# Altium footprint library Fedor's_pcb.PcbLib: 174 footprints (part 9 of 14)
Each footprint in its own frame and in the unit in brackets; x right, y up, seen from the top. Pads: shape width x height; smd on the part's side, far side on the other; paste and mask are expansions set on the pad; w line width, h text height; cw(c..) or ccw(c..) is an arc to the next point about the centre after c.
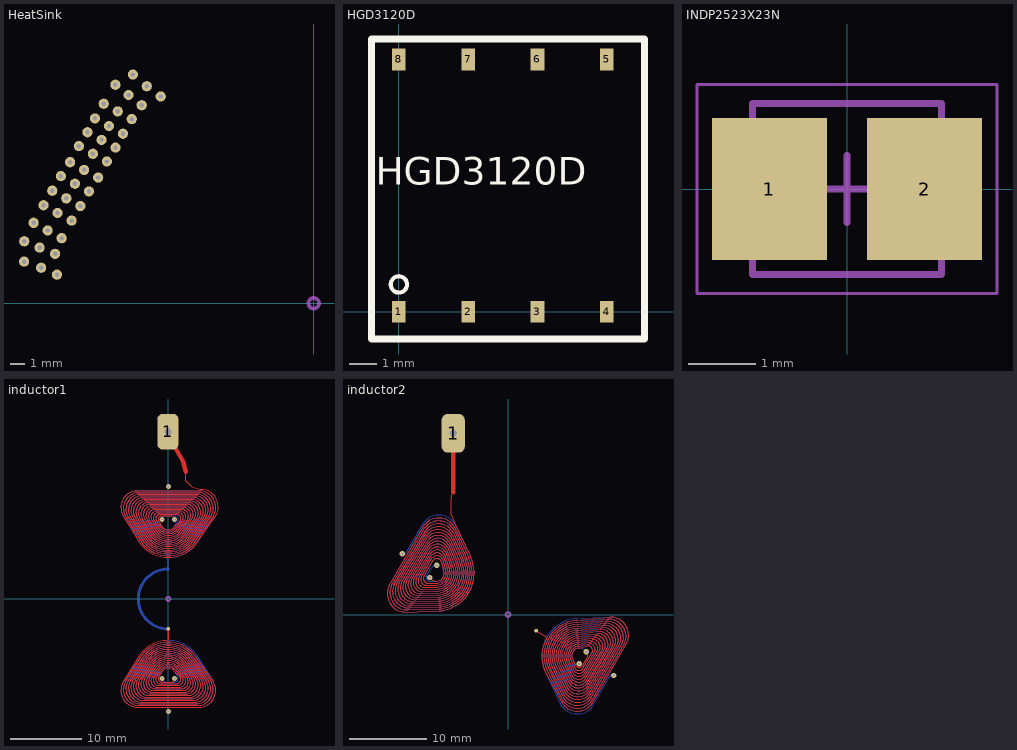
[diagram p8: the footprints below, top view; thin cyan lines are the x and y axes]

## HeatSink [mm]
pads (39):
  round 0.7 hole 0.3 mask+0.07: H_S(-19.827,2.855) H_S(-19.82,4.244) H_S(-19.178,5.509) H_S(-18.764,3.815) H_S(-18.659,2.432) H_S(-18.498,6.709) H_S(-18.218,4.984) H_S(-17.898,7.709) H_S(-17.708,3.385) H_S(-17.578,1.959) H_S(-17.538,6.184) H_S(-17.308,8.709) H_S(-17.258,4.459) H_S(-16.938,7.184) H_S(-16.678,9.659) H_S(-16.578,5.659) H_S(-16.348,8.184) H_S(-16.078,10.759) H_S(-15.978,6.659) H_S(-15.718,9.134) H_S(-15.488,11.709) H_S(-15.388,7.659) H_S(-15.118,10.234) H_S(-14.978,12.659) H_S(-14.758,8.609) H_S(-14.528,11.184) H_S(-14.378,13.659) H_S(-14.158,9.709) H_S(-14.018,12.134) H_S(-13.578,14.959) H_S(-13.568,10.659) H_S(-13.418,13.134) H_S(-13.058,11.609) H_S(-12.678,14.259) H_S(-12.458,12.609) H_S(-12.378,15.659) H_S(-11.778,13.559) H_S(-11.428,14.859) H_S(-10.478,14.159)
Mechanical 1:
  circle w0.254: c0,0 r0.361

## HGD3120D [mm] "HGD3120S, Оптопара, драйвер IGBT 2.5A изоляция 5000Vrms 8LSOP"
pads (8):
  rect 0.5x0.8 smd paste-2539.97 mask+0.07: 1(0,0) 8(0,9.25)
  rect 0.5x0.8 smd paste-2539.97: 2(2.54,0) 3(5.08,0) 4(7.62,0) 5(7.62,9.25) 6(5.08,9.25) 7(2.54,9.25)
Top Overlay:
  circle w0.15: c0,1 r0.3
  lines w0.254: -1,-1 9,-1 9,10 -1,10 -1,-1
  text "HGD3120D" at -0.85,4.65 h1

## INDP2523X23N [mm] "Precision Wire Wound Inductor, 2-Leads, Body 2,50x2,32mm, IPC Medium Density"
height 2.29
pads (2):
  rect 1.7x2.1 smd: 1(-1.15,0) 2(1.15,0)
Mechanical 13:
  lines w0.1: -1.4,-1.27 1.4,-1.27 1.4,1.27 -1.4,1.27 -1.4,-1.27
Mechanical 15:
  lines w0.05: -2.225,-1.55 2.225,-1.55 2.225,1.55 -2.225,1.55 -2.225,-1.55
  lines w0.1: -0.5,0 0.5,0 ; 0,-0.5 0,0.5
3D body "INDP2523X23N.step": height 2.39, standoff 0, extent -1.35,-1.16 1.35,1.16

## inductor1 [mm]
pads (2):
  rrect50% 3x5 hole 1: 1(-0.05,23.5)
  round 0.5 smd mask+0.07: 2(0,-4.2)
via -0.902,-11.183 diameter 0.7 hole 0.3
via 0.902,-11.183 diameter 0.7 hole 0.3
via -0.902,11.183 diameter 0.7 hole 0.3
via 0.902,11.183 diameter 0.7 hole 0.3
via 0,15.8 diameter 0.7 hole 0.3
via 0,-15.8 diameter 0.7 hole 0.3
Top Layer:
  lines w0.1: 0,-4.2 0,-5.828 ccw(c0,-10.74) -4.033,-7.936 -6.292,-11.566 ccw(c-4.286,-12.843) -4.626,-15.196 4.626,-15.196 ccw(c4.286,-12.843) 6.292,-11.566 3.821,-8.084 ccw(c0,-10.74) -3.821,-8.084 -5.96,-11.523 ccw(c-4.06,-12.732) -4.383,-14.961 4.383,-14.961 ccw(c4.06,-12.732) 5.96,-11.523 3.608,-8.231 ccw(c0,-10.74) -3.608,-8.231 -5.629,-11.479 ccw(c-3.835,-12.622) -4.139,-14.727 4.139,-14.727 ccw(c3.835,-12.622) 5.629,-11.479 3.396,-8.379 ccw(c0,-10.74) -3.396,-8.379 -5.298,-11.436 ccw(c-3.609,-12.511) -3.896,-14.492 3.896,-14.492 ccw(c3.609,-12.511) 5.298,-11.436 3.184,-8.527 ccw(c0,-10.74) -3.184,-8.527 -4.967,-11.392 ccw(c-3.384,-12.4) -3.652,-14.258 3.652,-14.258 ccw(c3.384,-12.4) 4.967,-11.392 2.972,-8.674 ccw(c0,-10.74) -2.972,-8.674 -4.636,-11.349 ccw(c-3.158,-12.289) -3.409,-14.023 3.409,-14.023 ccw(c3.158,-12.289) 4.636,-11.349 2.759,-8.822 ccw(c0,-10.74) -2.759,-8.822 -4.305,-11.305 ccw(c-2.933,-12.179) -3.165,-13.789 3.165,-13.789 ccw(c2.933,-12.179) 4.305,-11.305 2.547,-8.969 ccw(c0,-10.74) -2.547,-8.969 -3.974,-11.262 ccw(c-2.707,-12.068) -2.922,-13.554 2.922,-13.554 ccw(c2.707,-12.068) 3.974,-11.262 2.335,-9.117 ccw(c0,-10.74) -2.335,-9.117 -3.642,-11.218 ccw(c-2.481,-11.957) -2.678,-13.32 2.678,-13.32 ccw(c2.481,-11.957) 3.642,-11.218 2.123,-9.264 ccw(c0,-10.74) -2.123,-9.264 -3.311,-11.175 ccw(c-2.256,-11.847) -2.435,-13.085 2.435,-13.085 ccw(c2.256,-11.847) 3.311,-11.175 1.91,-9.412 ccw(c0,-10.74) -1.91,-9.412 -2.98,-11.131 ccw(c-2.03,-11.736) -2.191,-12.851 2.191,-12.851 ccw(c2.03,-11.736) 2.98,-11.131 1.698,-9.559 ccw(c0,-10.74) -1.698,-9.559 -2.649,-11.088 ccw(c-1.805,-11.625) -1.948,-12.616 1.948,-12.616 ccw(c1.805,-11.625) 2.649,-11.088 1.486,-9.707 ccw(c0,-10.74) -1.486,-9.707 -2.318,-11.044 ccw(c-1.579,-11.515) -1.704,-12.382 1.704,-12.382 ccw(c1.579,-11.515) 2.318,-11.044 1.274,-9.855 ; 0.902,-11.183 cw(c0.407,-11.183) 0.407,-11.678 -0.974,-11.678 cw(c-0.902,-11.183) -1.325,-10.914 -0.849,-10.15 cw(c0,-10.74) 0.849,-10.15 1.656,-10.957 cw(c1.128,-11.293) 1.217,-11.912 -1.217,-11.912 cw(c-1.128,-11.293) -1.656,-10.957 -1.061,-10.002 cw(c0,-10.74) 1.061,-10.002 ; 0.902,11.183 0.777,11.399 ccw(c0.267,11.104) 0.419,11.674 -0.974,11.678 ccw(c-0.902,11.183) -1.325,10.914 -0.849,10.15 ccw(c0,10.74) 0.849,10.15 1.656,10.957 ccw(c1.128,11.293) 1.217,11.912 -1.217,11.912 ccw(c-1.128,11.293) -1.656,10.957 -1.061,10.002 ccw(c0,10.74) 1.061,10.002 ; 2.45,17.9 2.45,16.6 2.876,16.174 ccw(c4.672,17.97) 4.672,15.43 4.87,15.43 cw(c4.512,12.954) 6.623,11.61 4.033,7.936 cw(c0,10.74) -4.033,7.936 -6.292,11.566 cw(c-4.286,12.843) -4.626,15.196 4.626,15.196 cw(c4.286,12.843) 6.292,11.566 3.821,8.084 cw(c0,10.74) -3.821,8.084 -5.96,11.523 cw(c-4.06,12.732) -4.383,14.961 4.383,14.961 cw(c4.06,12.732) 5.96,11.523 3.608,8.231 cw(c0,10.74) -3.608,8.231 -5.629,11.479 cw(c-3.835,12.622) -4.139,14.727 4.139,14.727 cw(c3.835,12.622) 5.629,11.479 3.396,8.379 cw(c0,10.74) -3.396,8.379 -5.298,11.436 cw(c-3.609,12.511) -3.896,14.492 3.896,14.492 cw(c3.609,12.511) 5.298,11.436 3.184,8.527 cw(c0,10.74) -3.184,8.527 -4.967,11.392 cw(c-3.384,12.4) -3.652,14.258 3.652,14.258 cw(c3.384,12.4) 4.967,11.392 2.972,8.674 cw(c0,10.74) -2.972,8.674 -4.636,11.349 cw(c-3.158,12.289) -3.409,14.023 3.409,14.023 cw(c3.158,12.289) 4.636,11.349 2.759,8.822 cw(c0,10.74) -2.759,8.822 -4.305,11.305 cw(c-2.933,12.179) -3.165,13.789 3.165,13.789 cw(c2.933,12.179) 4.305,11.305 2.547,8.969 cw(c0,10.74) -2.547,8.969 -3.974,11.262 cw(c-2.707,12.068) -2.922,13.554 2.922,13.554 cw(c2.707,12.068) 3.974,11.262 2.335,9.117 cw(c0,10.74) -2.335,9.117 -3.642,11.218 cw(c-2.481,11.957) -2.678,13.32 2.678,13.32 cw(c2.481,11.957) 3.642,11.218 2.123,9.264 cw(c0,10.74) -2.123,9.264 -3.311,11.175 cw(c-2.256,11.847) -2.435,13.085 2.435,13.085 cw(c2.256,11.847) 3.311,11.175 1.91,9.412 cw(c0,10.74) -1.91,9.412 -2.98,11.131 cw(c-2.03,11.736) -2.191,12.851 2.191,12.851 cw(c2.03,11.736) 2.98,11.131 1.698,9.559 cw(c0,10.74) -1.698,9.559 -2.649,11.088 cw(c-1.805,11.625) -1.948,12.616 1.948,12.616 cw(c1.805,11.625) 2.649,11.088 1.486,9.707 cw(c0,10.74) -1.486,9.707 -2.318,11.044 cw(c-1.579,11.515) -1.704,12.382 1.704,12.382 cw(c1.579,11.515) 2.318,11.044 1.274,9.855 ; -1.987,-11.001 ccw(c-1.353,-11.404) -1.461,-12.147 ; -1.987,-11.001 ccw(c-1.353,-11.404) -1.461,-12.147 ; -1.987,-11.001 -1.274,-9.855 ; -1.987,-11.001 -1.274,-9.855 ; -1.987,11.001 cw(c-1.353,11.404) -1.461,12.147 ; -1.987,11.001 cw(c-1.353,11.404) -1.461,12.147 ; -1.987,11.001 -1.274,9.855 ; -1.987,11.001 -1.274,9.855 ; -1.461,-12.147 1.461,-12.147 ; -1.461,-12.147 1.461,-12.147 ; -1.461,12.147 1.461,12.147 ; -1.461,12.147 1.461,12.147 ; -1.274,-9.855 cw(c0,-10.74) 1.274,-9.855 ; -1.274,-9.855 cw(c0,-10.74) 1.274,-9.855 ; -1.274,9.855 ccw(c0,10.74) 1.274,9.855 ; -1.274,9.855 ccw(c0,10.74) 1.274,9.855 ; 1.061,-10.002 1.987,-11.001 ; 1.061,-10.002 1.987,-11.001 ; 1.061,10.002 1.987,11.001 ; 1.061,10.002 1.987,11.001 ; 1.461,-12.147 ccw(c1.353,-11.404) 1.987,-11.001 ; 1.461,-12.147 ccw(c1.353,-11.404) 1.987,-11.001 ; 1.461,12.147 cw(c1.353,11.404) 1.987,11.001 ; 1.461,12.147 cw(c1.353,11.404) 1.987,11.001
  lines w0.6: -0.05,23.5 0.7,21.75 2.107,19.276 2.45,17.9
Mid-Layer 1:
  lines w0.1: -0.917,-11.183 cw(c-0.917,-10.9) -1.2,-10.9 cw(c-0.236,-10.9) -0.918,-10.218 -0.849,-10.15 cw(c0,-10.74) 0.849,-10.15 1.656,-10.957 cw(c1.128,-11.293) 1.217,-11.912 -1.217,-11.912 cw(c-1.128,-11.293) -1.656,-10.957 -1.061,-10.002 cw(c0,-10.74) 1.061,-10.002 ; 0,-15.8 cw(c0.37,-15.8) 0.37,-15.43 0.5,-15.43 4.87,-15.43 ccw(c4.512,-12.954) 6.623,-11.61 4.033,-7.936 ccw(c0,-10.74) -4.033,-7.936 -6.292,-11.566 ccw(c-4.286,-12.843) -4.626,-15.196 4.626,-15.196 ccw(c4.286,-12.843) 6.292,-11.566 3.821,-8.084 ccw(c0,-10.74) -3.821,-8.084 -5.96,-11.523 ccw(c-4.06,-12.732) -4.383,-14.961 4.383,-14.961 ccw(c4.06,-12.732) 5.96,-11.523 3.608,-8.231 ccw(c0,-10.74) -3.608,-8.231 -5.629,-11.479 ccw(c-3.835,-12.622) -4.139,-14.727 4.139,-14.727 ccw(c3.835,-12.622) 5.629,-11.479 3.396,-8.379 ccw(c0,-10.74) -3.396,-8.379 -5.298,-11.436 ccw(c-3.609,-12.511) -3.896,-14.492 3.896,-14.492 ccw(c3.609,-12.511) 5.298,-11.436 3.184,-8.527 ccw(c0,-10.74) -3.184,-8.527 -4.967,-11.392 ccw(c-3.384,-12.4) -3.652,-14.258 3.652,-14.258 ccw(c3.384,-12.4) 4.967,-11.392 2.972,-8.674 ccw(c0,-10.74) -2.972,-8.674 -4.636,-11.349 ccw(c-3.158,-12.289) -3.409,-14.023 3.409,-14.023 ccw(c3.158,-12.289) 4.636,-11.349 2.759,-8.822 ccw(c0,-10.74) -2.759,-8.822 -4.305,-11.305 ccw(c-2.933,-12.179) -3.165,-13.789 3.165,-13.789 ccw(c2.933,-12.179) 4.305,-11.305 2.547,-8.969 ccw(c0,-10.74) -2.547,-8.969 -3.974,-11.262 ccw(c-2.707,-12.068) -2.922,-13.554 2.922,-13.554 ccw(c2.707,-12.068) 3.974,-11.262 2.335,-9.117 ccw(c0,-10.74) -2.335,-9.117 -3.642,-11.218 ccw(c-2.481,-11.957) -2.678,-13.32 2.678,-13.32 ccw(c2.481,-11.957) 3.642,-11.218 2.123,-9.264 ccw(c0,-10.74) -2.123,-9.264 -3.311,-11.175 ccw(c-2.256,-11.847) -2.435,-13.085 2.435,-13.085 ccw(c2.256,-11.847) 3.311,-11.175 1.91,-9.412 ccw(c0,-10.74) -1.91,-9.412 -2.98,-11.131 ccw(c-2.03,-11.736) -2.191,-12.851 2.191,-12.851 ccw(c2.03,-11.736) 2.98,-11.131 1.698,-9.559 ccw(c0,-10.74) -1.698,-9.559 -2.649,-11.088 ccw(c-1.805,-11.625) -1.948,-12.616 1.948,-12.616 ccw(c1.805,-11.625) 2.649,-11.088 1.486,-9.707 ccw(c0,-10.74) -1.486,-9.707 -2.318,-11.044 ccw(c-1.579,-11.515) -1.704,-12.382 1.704,-12.382 ccw(c1.579,-11.515) 2.318,-11.044 1.274,-9.855 ; 0,15.8 cw(c-0.37,15.8) -0.37,15.43 -0.5,15.43 -4.87,15.43 ccw(c-4.512,12.954) -6.623,11.61 -4.033,7.936 ccw(c0,10.74) 4.033,7.936 6.292,11.566 ccw(c4.286,12.843) 4.626,15.196 -4.626,15.196 ccw(c-4.286,12.843) -6.292,11.566 -3.821,8.084 ccw(c0,10.74) 3.821,8.084 5.96,11.523 ccw(c4.06,12.732) 4.383,14.961 -4.383,14.961 ccw(c-4.06,12.732) -5.96,11.523 -3.608,8.231 ccw(c0,10.74) 3.608,8.231 5.629,11.479 ccw(c3.835,12.622) 4.139,14.727 -4.139,14.727 ccw(c-3.835,12.622) -5.629,11.479 -3.396,8.379 ccw(c0,10.74) 3.396,8.379 5.298,11.436 ccw(c3.609,12.511) 3.896,14.492 -3.896,14.492 ccw(c-3.609,12.511) -5.298,11.436 -3.184,8.527 ccw(c0,10.74) 3.184,8.527 4.967,11.392 ccw(c3.384,12.4) 3.652,14.258 -3.652,14.258 ccw(c-3.384,12.4) -4.967,11.392 -2.972,8.674 ccw(c0,10.74) 2.972,8.674 4.636,11.349 ccw(c3.158,12.289) 3.409,14.023 -3.409,14.023 ccw(c-3.158,12.289) -4.636,11.349 -2.759,8.822 ccw(c0,10.74) 2.759,8.822 4.305,11.305 ccw(c2.933,12.179) 3.165,13.789 -3.165,13.789 ccw(c-2.933,12.179) -4.305,11.305 -2.547,8.969 ccw(c0,10.74) 2.547,8.969 3.974,11.262 ccw(c2.707,12.068) 2.922,13.554 -2.922,13.554 ccw(c-2.707,12.068) -3.974,11.262 -2.335,9.117 ccw(c0,10.74) 2.335,9.117 3.642,11.218 ccw(c2.481,11.957) 2.678,13.32 -2.678,13.32 ccw(c-2.481,11.957) -3.642,11.218 -2.123,9.264 ccw(c0,10.74) 2.123,9.264 3.311,11.175 ccw(c2.256,11.847) 2.435,13.085 -2.435,13.085 ccw(c-2.256,11.847) -3.311,11.175 -1.91,9.412 ccw(c0,10.74) 1.91,9.412 2.98,11.131 ccw(c2.03,11.736) 2.191,12.851 -2.191,12.851 ccw(c-2.03,11.736) -2.98,11.131 -1.698,9.559 ccw(c0,10.74) 1.698,9.559 2.649,11.088 ccw(c1.805,11.625) 1.948,12.616 -1.948,12.616 ccw(c-1.805,11.625) -2.649,11.088 -1.486,9.707 ccw(c0,10.74) 1.486,9.707 2.318,11.044 ccw(c1.579,11.515) 1.704,12.382 -1.704,12.382 ccw(c-1.579,11.515) -2.318,11.044 -1.274,9.855 ; 0.917,11.183 cw(c0.917,10.9) 1.2,10.9 cw(c0.236,10.9) 0.918,10.218 0.849,10.15 cw(c0,10.74) -0.849,10.15 -1.656,10.957 cw(c-1.128,11.293) -1.217,11.912 1.217,11.912 cw(c1.128,11.293) 1.656,10.957 1.061,10.002 cw(c0,10.74) -1.061,10.002 ; -1.987,-11.001 ccw(c-1.353,-11.404) -1.461,-12.147 ; -1.987,-11.001 ccw(c-1.353,-11.404) -1.461,-12.147 ; -1.987,-11.001 -1.274,-9.855 ; -1.987,-11.001 -1.274,-9.855 ; -1.987,11.001 cw(c-1.353,11.404) -1.461,12.147 ; -1.987,11.001 cw(c-1.353,11.404) -1.461,12.147 ; -1.987,11.001 -1.061,10.002 ; -1.987,11.001 -1.061,10.002 ; -1.461,-12.147 1.461,-12.147 ; -1.461,-12.147 1.461,-12.147 ; -1.461,12.147 1.461,12.147 ; -1.461,12.147 1.461,12.147 ; -1.274,-9.855 cw(c0,-10.74) 1.274,-9.855 ; -1.274,-9.855 cw(c0,-10.74) 1.274,-9.855 ; -1.274,9.855 ccw(c0,10.74) 1.274,9.855 ; -1.274,9.855 ccw(c0,10.74) 1.274,9.855 ; 1.061,-10.002 1.987,-11.001 ; 1.061,-10.002 1.987,-11.001 ; 1.274,9.855 1.987,11.001 ; 1.274,9.855 1.987,11.001 ; 1.461,-12.147 ccw(c1.353,-11.404) 1.987,-11.001 ; 1.461,-12.147 ccw(c1.353,-11.404) 1.987,-11.001 ; 1.461,12.147 cw(c1.353,11.404) 1.987,11.001 ; 1.461,12.147 cw(c1.353,11.404) 1.987,11.001
Mid-Layer 2:
  lines w0.1: -0.902,11.183 ccw(c-0.902,10.9) -1.185,10.9 ccw(c-0.221,10.9) -0.903,10.218 -0.849,10.15 ccw(c0,10.74) 0.849,10.15 1.656,10.957 ccw(c1.128,11.293) 1.217,11.912 -1.217,11.912 ccw(c-1.128,11.293) -1.656,10.957 -1.061,10.002 ccw(c0,10.74) 1.061,10.002 ; 0,-15.8 ccw(c-0.37,-15.8) -0.37,-15.43 -0.5,-15.43 -4.87,-15.43 cw(c-4.512,-12.954) -6.623,-11.61 -4.033,-7.936 cw(c0,-10.74) 4.033,-7.936 6.292,-11.566 cw(c4.286,-12.843) 4.626,-15.196 -4.626,-15.196 cw(c-4.286,-12.843) -6.292,-11.566 -3.821,-8.084 cw(c0,-10.74) 3.821,-8.084 5.96,-11.523 cw(c4.06,-12.732) 4.383,-14.961 -4.383,-14.961 cw(c-4.06,-12.732) -5.96,-11.523 -3.608,-8.231 cw(c0,-10.74) 3.608,-8.231 5.629,-11.479 cw(c3.835,-12.622) 4.139,-14.727 -4.139,-14.727 cw(c-3.835,-12.622) -5.629,-11.479 -3.396,-8.379 cw(c0,-10.74) 3.396,-8.379 5.298,-11.436 cw(c3.609,-12.511) 3.896,-14.492 -3.896,-14.492 cw(c-3.609,-12.511) -5.298,-11.436 -3.184,-8.527 cw(c0,-10.74) 3.184,-8.527 4.967,-11.392 cw(c3.384,-12.4) 3.652,-14.258 -3.652,-14.258 cw(c-3.384,-12.4) -4.967,-11.392 -2.972,-8.674 cw(c0,-10.74) 2.972,-8.674 4.636,-11.349 cw(c3.158,-12.289) 3.409,-14.023 -3.409,-14.023 cw(c-3.158,-12.289) -4.636,-11.349 -2.759,-8.822 cw(c0,-10.74) 2.759,-8.822 4.305,-11.305 cw(c2.933,-12.179) 3.165,-13.789 -3.165,-13.789 cw(c-2.933,-12.179) -4.305,-11.305 -2.547,-8.969 cw(c0,-10.74) 2.547,-8.969 3.974,-11.262 cw(c2.707,-12.068) 2.922,-13.554 -2.922,-13.554 cw(c-2.707,-12.068) -3.974,-11.262 -2.335,-9.117 cw(c0,-10.74) 2.335,-9.117 3.642,-11.218 cw(c2.481,-11.957) 2.678,-13.32 -2.678,-13.32 cw(c-2.481,-11.957) -3.642,-11.218 -2.123,-9.264 cw(c0,-10.74) 2.123,-9.264 3.311,-11.175 cw(c2.256,-11.847) 2.435,-13.085 -2.435,-13.085 cw(c-2.256,-11.847) -3.311,-11.175 -1.91,-9.412 cw(c0,-10.74) 1.91,-9.412 2.98,-11.131 cw(c2.03,-11.736) 2.191,-12.851 -2.191,-12.851 cw(c-2.03,-11.736) -2.98,-11.131 -1.698,-9.559 cw(c0,-10.74) 1.698,-9.559 2.649,-11.088 cw(c1.805,-11.625) 1.948,-12.616 -1.948,-12.616 cw(c-1.805,-11.625) -2.649,-11.088 -1.486,-9.707 cw(c0,-10.74) 1.486,-9.707 2.318,-11.044 cw(c1.579,-11.515) 1.704,-12.382 -1.704,-12.382 cw(c-1.579,-11.515) -2.318,-11.044 -1.274,-9.855 ; 0,15.8 ccw(c0.37,15.8) 0.37,15.43 0.5,15.43 4.87,15.43 cw(c4.512,12.954) 6.623,11.61 4.033,7.936 cw(c0,10.74) -4.033,7.936 -6.292,11.566 cw(c-4.286,12.843) -4.626,15.196 4.626,15.196 cw(c4.286,12.843) 6.292,11.566 3.821,8.084 cw(c0,10.74) -3.821,8.084 -5.96,11.523 cw(c-4.06,12.732) -4.383,14.961 4.383,14.961 cw(c4.06,12.732) 5.96,11.523 3.608,8.231 cw(c0,10.74) -3.608,8.231 -5.629,11.479 cw(c-3.835,12.622) -4.139,14.727 4.139,14.727 cw(c3.835,12.622) 5.629,11.479 3.396,8.379 cw(c0,10.74) -3.396,8.379 -5.298,11.436 cw(c-3.609,12.511) -3.896,14.492 3.896,14.492 cw(c3.609,12.511) 5.298,11.436 3.184,8.527 cw(c0,10.74) -3.184,8.527 -4.967,11.392 cw(c-3.384,12.4) -3.652,14.258 3.652,14.258 cw(c3.384,12.4) 4.967,11.392 2.972,8.674 cw(c0,10.74) -2.972,8.674 -4.636,11.349 cw(c-3.158,12.289) -3.409,14.023 3.409,14.023 cw(c3.158,12.289) 4.636,11.349 2.759,8.822 cw(c0,10.74) -2.759,8.822 -4.305,11.305 cw(c-2.933,12.179) -3.165,13.789 3.165,13.789 cw(c2.933,12.179) 4.305,11.305 2.547,8.969 cw(c0,10.74) -2.547,8.969 -3.974,11.262 cw(c-2.707,12.068) -2.922,13.554 2.922,13.554 cw(c2.707,12.068) 3.974,11.262 2.335,9.117 cw(c0,10.74) -2.335,9.117 -3.642,11.218 cw(c-2.481,11.957) -2.678,13.32 2.678,13.32 cw(c2.481,11.957) 3.642,11.218 2.123,9.264 cw(c0,10.74) -2.123,9.264 -3.311,11.175 cw(c-2.256,11.847) -2.435,13.085 2.435,13.085 cw(c2.256,11.847) 3.311,11.175 1.91,9.412 cw(c0,10.74) -1.91,9.412 -2.98,11.131 cw(c-2.03,11.736) -2.191,12.851 2.191,12.851 cw(c2.03,11.736) 2.98,11.131 1.698,9.559 cw(c0,10.74) -1.698,9.559 -2.649,11.088 cw(c-1.805,11.625) -1.948,12.616 1.948,12.616 cw(c1.805,11.625) 2.649,11.088 1.486,9.707 cw(c0,10.74) -1.486,9.707 -2.318,11.044 cw(c-1.579,11.515) -1.704,12.382 1.704,12.382 cw(c1.579,11.515) 2.318,11.044 1.274,9.855 ; 0.902,-11.183 ccw(c0.902,-10.9) 1.185,-10.9 ccw(c0.221,-10.9) 0.903,-10.218 0.849,-10.15 ccw(c0,-10.74) -0.849,-10.15 -1.656,-10.957 ccw(c-1.128,-11.293) -1.217,-11.912 1.217,-11.912 ccw(c1.128,-11.293) 1.656,-10.957 1.061,-10.002 ccw(c0,-10.74) -1.061,-10.002 ; -1.987,-11.001 ccw(c-1.353,-11.404) -1.461,-12.147 ; -1.987,-11.001 ccw(c-1.353,-11.404) -1.461,-12.147 ; -1.987,-11.001 -1.061,-10.002 ; -1.987,-11.001 -1.061,-10.002 ; -1.987,11.001 cw(c-1.353,11.404) -1.461,12.147 ; -1.987,11.001 cw(c-1.353,11.404) -1.461,12.147 ; -1.987,11.001 -1.274,9.855 ; -1.987,11.001 -1.274,9.855 ; -1.461,-12.147 1.461,-12.147 ; -1.461,-12.147 1.461,-12.147 ; -1.461,12.147 1.461,12.147 ; -1.461,12.147 1.461,12.147 ; -1.274,-9.855 cw(c0,-10.74) 1.274,-9.855 ; -1.274,-9.855 cw(c0,-10.74) 1.274,-9.855 ; -1.274,9.855 ccw(c0,10.74) 1.274,9.855 ; -1.274,9.855 ccw(c0,10.74) 1.274,9.855 ; 1.061,10.002 1.987,11.001 ; 1.061,10.002 1.987,11.001 ; 1.274,-9.855 1.987,-11.001 ; 1.274,-9.855 1.987,-11.001 ; 1.461,-12.147 ccw(c1.353,-11.404) 1.987,-11.001 ; 1.461,-12.147 ccw(c1.353,-11.404) 1.987,-11.001 ; 1.461,12.147 cw(c1.353,11.404) 1.987,11.001 ; 1.461,12.147 cw(c1.353,11.404) 1.987,11.001
Bottom Layer:
  lines w0.1: -0.902,-11.183 -0.777,-11.399 ccw(c-0.267,-11.104) -0.419,-11.674 0.974,-11.678 ccw(c0.902,-11.183) 1.325,-10.914 0.849,-10.15 ccw(c0,-10.74) -0.849,-10.15 -1.656,-10.957 ccw(c-1.128,-11.293) -1.217,-11.912 1.217,-11.912 ccw(c1.128,-11.293) 1.656,-10.957 1.061,-10.002 ccw(c0,-10.74) -1.061,-10.002 ; -0.902,11.183 cw(c-0.407,11.183) -0.407,11.678 0.974,11.678 cw(c0.902,11.183) 1.325,10.914 0.849,10.15 cw(c0,10.74) -0.849,10.15 -1.656,10.957 cw(c-1.128,11.293) -1.217,11.912 1.217,11.912 cw(c1.128,11.293) 1.656,10.957 1.061,10.002 cw(c0,10.74) -1.061,10.002 ; 0,-4.215 0,-5.828 cw(c0,-10.74) 4.033,-7.936 6.292,-11.566 cw(c4.286,-12.843) 4.626,-15.196 -4.626,-15.196 cw(c-4.286,-12.843) -6.292,-11.566 -3.821,-8.084 cw(c0,-10.74) 3.821,-8.084 5.96,-11.523 cw(c4.06,-12.732) 4.383,-14.961 -4.383,-14.961 cw(c-4.06,-12.732) -5.96,-11.523 -3.608,-8.231 cw(c0,-10.74) 3.608,-8.231 5.629,-11.479 cw(c3.835,-12.622) 4.139,-14.727 -4.139,-14.727 cw(c-3.835,-12.622) -5.629,-11.479 -3.396,-8.379 cw(c0,-10.74) 3.396,-8.379 5.298,-11.436 cw(c3.609,-12.511) 3.896,-14.492 -3.896,-14.492 cw(c-3.609,-12.511) -5.298,-11.436 -3.184,-8.527 cw(c0,-10.74) 3.184,-8.527 4.967,-11.392 cw(c3.384,-12.4) 3.652,-14.258 -3.652,-14.258 cw(c-3.384,-12.4) -4.967,-11.392 -2.972,-8.674 cw(c0,-10.74) 2.972,-8.674 4.636,-11.349 cw(c3.158,-12.289) 3.409,-14.023 -3.409,-14.023 cw(c-3.158,-12.289) -4.636,-11.349 -2.759,-8.822 cw(c0,-10.74) 2.759,-8.822 4.305,-11.305 cw(c2.933,-12.179) 3.165,-13.789 -3.165,-13.789 cw(c-2.933,-12.179) -4.305,-11.305 -2.547,-8.969 cw(c0,-10.74) 2.547,-8.969 3.974,-11.262 cw(c2.707,-12.068) 2.922,-13.554 -2.922,-13.554 cw(c-2.707,-12.068) -3.974,-11.262 -2.335,-9.117 cw(c0,-10.74) 2.335,-9.117 3.642,-11.218 cw(c2.481,-11.957) 2.678,-13.32 -2.678,-13.32 cw(c-2.481,-11.957) -3.642,-11.218 -2.123,-9.264 cw(c0,-10.74) 2.123,-9.264 3.311,-11.175 cw(c2.256,-11.847) 2.435,-13.085 -2.435,-13.085 cw(c-2.256,-11.847) -3.311,-11.175 -1.91,-9.412 cw(c0,-10.74) 1.91,-9.412 2.98,-11.131 cw(c2.03,-11.736) 2.191,-12.851 -2.191,-12.851 cw(c-2.03,-11.736) -2.98,-11.131 -1.698,-9.559 cw(c0,-10.74) 1.698,-9.559 2.649,-11.088 cw(c1.805,-11.625) 1.948,-12.616 -1.948,-12.616 cw(c-1.805,-11.625) -2.649,-11.088 -1.486,-9.707 cw(c0,-10.74) 1.486,-9.707 2.318,-11.044 cw(c1.579,-11.515) 1.704,-12.382 -1.704,-12.382 cw(c-1.579,-11.515) -2.318,-11.044 -1.274,-9.855 ; 0,4.215 0,5.828 ; -1.987,-11.001 ccw(c-1.353,-11.404) -1.461,-12.147 ; -1.987,-11.001 ccw(c-1.353,-11.404) -1.461,-12.147 ; -1.987,-11.001 -1.061,-10.002 ; -1.987,-11.001 -1.061,-10.002 ; -1.987,11.001 cw(c-1.353,11.404) -1.461,12.147 ; -1.987,11.001 cw(c-1.353,11.404) -1.461,12.147 ; -1.987,11.001 -1.061,10.002 ; -1.987,11.001 -1.061,10.002 ; -1.461,-12.147 1.461,-12.147 ; -1.461,-12.147 1.461,-12.147 ; -1.461,12.147 1.461,12.147 ; -1.461,12.147 1.461,12.147 ; -1.274,-9.855 cw(c0,-10.74) 1.274,-9.855 ; -1.274,-9.855 cw(c0,-10.74) 1.274,-9.855 ; -1.274,9.855 ccw(c0,10.74) 1.274,9.855 ; -1.274,9.855 ccw(c0,10.74) 1.274,9.855 ; -1.274,9.855 -2.318,11.044 cw(c-1.579,11.515) -1.704,12.382 1.704,12.382 cw(c1.579,11.515) 2.318,11.044 1.486,9.707 cw(c0,10.74) -1.486,9.707 -2.649,11.088 cw(c-1.805,11.625) -1.948,12.616 1.948,12.616 cw(c1.805,11.625) 2.649,11.088 1.698,9.559 cw(c0,10.74) -1.698,9.559 -2.98,11.131 cw(c-2.03,11.736) -2.191,12.851 2.191,12.851 cw(c2.03,11.736) 2.98,11.131 1.91,9.412 cw(c0,10.74) -1.91,9.412 -3.311,11.175 cw(c-2.256,11.847) -2.435,13.085 2.435,13.085 cw(c2.256,11.847) 3.311,11.175 2.123,9.264 cw(c0,10.74) -2.123,9.264 -3.642,11.218 cw(c-2.481,11.957) -2.678,13.32 2.678,13.32 cw(c2.481,11.957) 3.642,11.218 2.335,9.117 cw(c0,10.74) -2.335,9.117 -3.974,11.262 cw(c-2.707,12.068) -2.922,13.554 2.922,13.554 cw(c2.707,12.068) 3.974,11.262 2.547,8.969 cw(c0,10.74) -2.547,8.969 -4.305,11.305 cw(c-2.933,12.179) -3.165,13.789 3.165,13.789 cw(c2.933,12.179) 4.305,11.305 2.759,8.822 cw(c0,10.74) -2.759,8.822 -4.636,11.349 cw(c-3.158,12.289) -3.409,14.023 3.409,14.023 cw(c3.158,12.289) 4.636,11.349 2.972,8.674 cw(c0,10.74) -2.972,8.674 -4.967,11.392 cw(c-3.384,12.4) -3.652,14.258 3.652,14.258 cw(c3.384,12.4) 4.967,11.392 3.184,8.527 cw(c0,10.74) -3.184,8.527 -5.298,11.436 cw(c-3.609,12.511) -3.896,14.492 3.896,14.492 cw(c3.609,12.511) 5.298,11.436 3.396,8.379 cw(c0,10.74) -3.396,8.379 -5.629,11.479 cw(c-3.835,12.622) -4.139,14.727 4.139,14.727 cw(c3.835,12.622) 5.629,11.479 3.608,8.231 cw(c0,10.74) -3.608,8.231 -5.96,11.523 cw(c-4.06,12.732) -4.383,14.961 4.383,14.961 cw(c4.06,12.732) 5.96,11.523 3.821,8.084 cw(c0,10.74) -3.821,8.084 -6.292,11.566 cw(c-4.286,12.843) -4.626,15.196 4.626,15.196 cw(c4.286,12.843) 6.292,11.566 4.033,7.936 ; 0,5.828 ccw(c0,10.74) 4.033,7.936 ; 0,5.828 ccw(c0,10.74) 4.033,7.936 ; 1.274,-9.855 1.987,-11.001 ; 1.274,-9.855 1.987,-11.001 ; 1.274,9.855 1.987,11.001 ; 1.274,9.855 1.987,11.001 ; 1.461,-12.147 ccw(c1.353,-11.404) 1.987,-11.001 ; 1.461,-12.147 ccw(c1.353,-11.404) 1.987,-11.001 ; 1.461,12.147 cw(c1.353,11.404) 1.987,11.001 ; 1.461,12.147 cw(c1.353,11.404) 1.987,11.001
  lines w0.4: 0,-4.215 cw(c0,0) 0,4.215
Mechanical 1:
  circle w0.254: c0,0 r0.3

## inductor2 [mm]
pads (2):
  rrect50% 3x5 hole 1: 1(-7.1,23.5)
  round 0.5 smd mask+0.07: 2(3.65,-2.1)
via 13.683,-7.9 diameter 0.7 hole 0.3
via 9.233,-6.373 diameter 0.7 hole 0.3
via 10.136,-4.81 diameter 0.7 hole 0.3
via -10.136,4.81 diameter 0.7 hole 0.3
via -9.233,6.373 diameter 0.7 hole 0.3
via -13.683,7.9 diameter 0.7 hole 0.3
Top Layer:
  lines w0.1: -9.984,4.658 ccw(c-9.214,5.428) -9.214,4.34 ccw(c-9.301,5.37) -8.365,5.81 -8.661,6.912 ccw(c-9.216,6.623) -9.708,7.011 -10.925,4.902 ccw(c-10.344,4.67) -10.317,4.045 -9.193,4.082 ccw(c-9.301,5.37) -8.131,5.92 ; -9.483,6.373 -9.233,6.373 ; -7.1,15.852 ccw(c-6.416,15.168) -7.383,15.168 -7.383,12.902 -6.743,11.54 -4.857,7.461 cw(c-9.301,5.37) -8.89,0.475 -13.162,0.334 cw(c-13.265,2.71) -15.473,3.591 -10.847,11.605 cw(c-8.979,10.133) -6.871,11.232 -5.091,7.351 cw(c-9.301,5.37) -8.911,0.733 -12.959,0.599 cw(c-13.057,2.85) -15.148,3.685 -10.765,11.276 cw(c-8.996,9.883) -6.999,10.923 -5.324,7.241 cw(c-9.301,5.37) -8.933,0.991 -12.756,0.864 cw(c-12.848,2.99) -14.823,3.779 -10.684,10.948 cw(c-9.013,9.632) -7.127,10.615 -5.558,7.131 cw(c-9.301,5.37) -8.955,1.248 -12.553,1.13 cw(c-12.639,3.13) -14.499,3.872 -10.603,10.62 cw(c-9.03,9.381) -7.254,10.306 -5.792,7.021 cw(c-9.301,5.37) -8.976,1.506 -12.349,1.395 cw(c-12.431,3.27) -14.174,3.966 -10.521,10.292 cw(c-9.047,9.13) -7.382,9.998 -6.026,6.911 cw(c-9.301,5.37) -8.998,1.764 -12.146,1.66 cw(c-12.222,3.41) -13.849,4.059 -10.44,9.964 cw(c-9.064,8.88) -7.51,9.689 -6.26,6.801 cw(c-9.301,5.37) -9.02,2.021 -11.943,1.925 cw(c-12.013,3.55) -13.524,4.153 -10.359,9.636 cw(c-9.081,8.629) -7.638,9.381 -6.494,6.691 cw(c-9.301,5.37) -9.041,2.279 -11.74,2.19 cw(c-11.805,3.69) -13.199,4.247 -10.277,9.308 cw(c-9.098,8.378) -7.766,9.072 -6.728,6.58 cw(c-9.301,5.37) -9.063,2.536 -11.536,2.455 cw(c-11.596,3.83) -12.874,4.34 -10.196,8.979 cw(c-9.115,8.128) -7.894,8.764 -6.962,6.47 cw(c-9.301,5.37) -9.084,2.794 -11.333,2.72 cw(c-11.387,3.97) -12.55,4.434 -10.115,8.651 cw(c-9.132,7.877) -8.022,8.455 -7.196,6.36 cw(c-9.301,5.37) -9.106,3.052 -11.13,2.985 cw(c-11.179,4.11) -12.225,4.527 -10.033,8.323 cw(c-9.149,7.626) -8.15,8.147 -7.43,6.25 cw(c-9.301,5.37) -9.128,3.309 -10.927,3.25 cw(c-10.97,4.25) -11.9,4.621 -9.952,7.995 cw(c-9.166,7.376) -8.278,7.838 -7.664,6.14 cw(c-9.301,5.37) -9.149,3.567 -10.724,3.515 cw(c-10.762,4.39) -11.575,4.715 -9.87,7.667 cw(c-9.182,7.125) -8.406,7.53 -7.898,6.03 ; 3.65,-2.1 5.047,-2.914 ccw(c9.301,-5.37) 4.857,-7.461 6.871,-11.232 ccw(c8.979,-10.133) 10.847,-11.605 15.473,-3.591 ccw(c13.265,-2.71) 13.162,-0.334 8.911,-0.733 ccw(c9.301,-5.37) 5.091,-7.351 6.999,-10.923 ccw(c8.996,-9.883) 10.765,-11.276 15.148,-3.685 ccw(c13.057,-2.85) 12.959,-0.599 8.933,-0.991 ccw(c9.301,-5.37) 5.324,-7.241 7.127,-10.615 ccw(c9.013,-9.632) 10.684,-10.948 14.823,-3.779 ccw(c12.848,-2.99) 12.756,-0.864 8.955,-1.248 ccw(c9.301,-5.37) 5.558,-7.131 7.255,-10.306 ccw(c9.03,-9.381) 10.603,-10.62 14.499,-3.872 ccw(c12.639,-3.13) 12.553,-1.13 8.976,-1.506 ccw(c9.301,-5.37) 5.792,-7.021 7.382,-9.998 ccw(c9.047,-9.13) 10.521,-10.292 14.174,-3.966 ccw(c12.431,-3.27) 12.349,-1.395 8.998,-1.764 ccw(c9.301,-5.37) 6.026,-6.911 7.51,-9.689 ccw(c9.064,-8.88) 10.44,-9.964 13.849,-4.059 ccw(c12.222,-3.41) 12.146,-1.66 9.02,-2.021 ccw(c9.301,-5.37) 6.26,-6.801 7.638,-9.381 ccw(c9.081,-8.629) 10.359,-9.636 13.524,-4.153 ccw(c12.013,-3.55) 11.943,-1.925 9.041,-2.279 ccw(c9.301,-5.37) 6.494,-6.691 7.766,-9.072 ccw(c9.098,-8.378) 10.277,-9.308 13.199,-4.247 ccw(c11.805,-3.69) 11.74,-2.19 9.063,-2.536 ccw(c9.301,-5.37) 6.728,-6.58 7.894,-8.764 ccw(c9.115,-8.128) 10.196,-8.979 12.874,-4.34 ccw(c11.596,-3.83) 11.536,-2.455 9.084,-2.794 ccw(c9.301,-5.37) 6.962,-6.47 8.022,-8.455 ccw(c9.132,-7.877) 10.115,-8.651 12.55,-4.434 ccw(c11.387,-3.97) 11.333,-2.72 9.106,-3.052 ccw(c9.301,-5.37) 7.196,-6.36 8.15,-8.147 ccw(c9.149,-7.626) 10.033,-8.323 12.225,-4.527 ccw(c11.179,-4.11) 11.13,-2.985 9.128,-3.309 ccw(c9.301,-5.37) 7.43,-6.25 8.278,-7.838 ccw(c9.166,-7.376) 9.952,-7.995 11.9,-4.621 ccw(c10.97,-4.25) 10.927,-3.25 9.149,-3.567 ccw(c9.301,-5.37) 7.664,-6.14 8.406,-7.53 ccw(c9.182,-7.125) 9.87,-7.667 11.575,-4.715 ccw(c10.762,-4.39) 10.724,-3.515 9.171,-3.824 ; 10.136,-4.81 10.26,-5.026 cw(c9.75,-5.321) 10.319,-5.474 9.626,-6.682 cw(c9.233,-6.373) 8.789,-6.604 8.365,-5.81 cw(c9.301,-5.37) 9.214,-4.34 10.317,-4.045 cw(c10.344,-4.67) 10.925,-4.902 9.708,-7.011 cw(c9.216,-6.623) 8.661,-6.912 8.131,-5.92 cw(c9.301,-5.37) 9.193,-4.082 ; -11.25,4.808 ccw(c-10.553,4.53) -10.52,3.78 ; -11.25,4.808 ccw(c-10.553,4.53) -10.52,3.78 ; -11.25,4.808 -9.789,7.339 ; -11.25,4.808 -9.789,7.339 ; -10.52,3.78 -9.171,3.824 ; -10.52,3.78 -9.171,3.824 ; -9.789,7.339 cw(c-9.199,6.874) -8.534,7.221 ; -9.789,7.339 cw(c-9.199,6.874) -8.534,7.221 ; -9.171,3.824 ccw(c-9.301,5.37) -7.898,6.03 ; -9.171,3.824 ccw(c-9.301,5.37) -7.898,6.03 ; -8.534,7.221 -8.131,5.92 ; -8.534,7.221 -8.131,5.92 ; 7.898,-6.03 cw(c9.301,-5.37) 9.171,-3.824 ; 7.898,-6.03 cw(c9.301,-5.37) 9.171,-3.824 ; 7.898,-6.03 8.534,-7.221 ; 7.898,-6.03 8.534,-7.221 ; 8.534,-7.221 ccw(c9.199,-6.874) 9.789,-7.339 ; 8.534,-7.221 ccw(c9.199,-6.874) 9.789,-7.339 ; 9.193,-4.082 10.52,-3.78 ; 9.193,-4.082 10.52,-3.78 ; 9.789,-7.339 11.25,-4.808 ; 9.789,-7.339 11.25,-4.808 ; 10.52,-3.78 cw(c10.553,-4.53) 11.25,-4.808 ; 10.52,-3.78 cw(c10.553,-4.53) 11.25,-4.808
  lines w0.6: -7.1,15.852 -7.1,23.5
Mid-Layer 1:
  lines w0.1: -13.683,7.9 cw(c-13.868,7.58) -13.548,7.395 -13.613,7.282 -15.798,3.498 ccw(c-13.474,2.57) -13.366,0.069 -8.89,0.475 ccw(c-9.301,5.37) -4.857,7.461 -6.871,11.232 ccw(c-8.979,10.133) -10.847,11.604 -15.473,3.591 ccw(c-13.265,2.71) -13.162,0.334 -8.911,0.733 ccw(c-9.301,5.37) -5.091,7.351 -6.999,10.923 ccw(c-8.996,9.883) -10.765,11.276 -15.148,3.685 ccw(c-13.057,2.85) -12.959,0.599 -8.933,0.991 ccw(c-9.301,5.37) -5.324,7.241 -7.127,10.615 ccw(c-9.013,9.632) -10.684,10.948 -14.823,3.779 ccw(c-12.848,2.99) -12.756,0.864 -8.955,1.248 ccw(c-9.301,5.37) -5.558,7.131 -7.255,10.306 ccw(c-9.03,9.381) -10.603,10.62 -14.499,3.872 ccw(c-12.639,3.13) -12.553,1.13 -8.976,1.506 ccw(c-9.301,5.37) -5.792,7.021 -7.382,9.998 ccw(c-9.047,9.13) -10.521,10.292 -14.174,3.966 ccw(c-12.431,3.27) -12.349,1.395 -8.998,1.764 ccw(c-9.301,5.37) -6.026,6.911 -7.51,9.689 ccw(c-9.064,8.88) -10.44,9.964 -13.849,4.059 ccw(c-12.222,3.41) -12.146,1.66 -9.02,2.021 ccw(c-9.301,5.37) -6.26,6.801 -7.638,9.381 ccw(c-9.081,8.629) -10.359,9.636 -13.524,4.153 ccw(c-12.013,3.55) -11.943,1.925 -9.041,2.279 ccw(c-9.301,5.37) -6.494,6.691 -7.766,9.072 ccw(c-9.098,8.378) -10.277,9.308 -13.199,4.247 ccw(c-11.805,3.69) -11.74,2.19 -9.063,2.536 ccw(c-9.301,5.37) -6.728,6.58 -7.894,8.764 ccw(c-9.115,8.128) -10.196,8.979 -12.874,4.34 ccw(c-11.596,3.83) -11.536,2.455 -9.084,2.794 ccw(c-9.301,5.37) -6.962,6.47 -8.022,8.455 ccw(c-9.132,7.877) -10.115,8.651 -12.55,4.434 ccw(c-11.387,3.97) -11.333,2.72 -9.106,3.052 ccw(c-9.301,5.37) -7.196,6.36 -8.15,8.147 ccw(c-9.149,7.626) -10.033,8.323 -12.225,4.527 ccw(c-11.179,4.11) -11.13,2.985 -9.128,3.309 ccw(c-9.301,5.37) -7.43,6.25 -8.278,7.838 ccw(c-9.166,7.376) -9.952,7.995 -11.9,4.621 ccw(c-10.97,4.25) -10.927,3.25 -9.149,3.567 ccw(c-9.301,5.37) -7.664,6.14 -8.406,7.53 ccw(c-9.182,7.125) -9.87,7.667 -11.575,4.715 ccw(c-10.762,4.39) -10.724,3.515 -9.171,3.824 ; -10.136,4.81 -9.848,4.81 cw(c-9.848,4.662) -9.7,4.662 cw(c-10.317,4.662) -10.317,4.045 cw(c-10.344,4.67) -10.925,4.902 -9.708,7.011 cw(c-9.216,6.623) -8.661,6.912 -8.131,5.92 cw(c-9.301,5.37) -9.193,4.082 ; 9.226,-6.386 cw(c8.981,-6.244) 8.84,-6.489 cw(c9.322,-5.654) 8.39,-5.904 8.365,-5.81 cw(c9.301,-5.37) 9.214,-4.34 10.317,-4.045 cw(c10.344,-4.67) 10.925,-4.902 9.708,-7.011 cw(c9.216,-6.623) 8.661,-6.912 8.131,-5.92 cw(c9.301,-5.37) 9.193,-4.082 ; 13.683,-7.9 cw(c13.868,-7.58) 13.548,-7.395 13.613,-7.282 15.798,-3.498 ccw(c13.474,-2.57) 13.366,-0.069 8.89,-0.475 ccw(c9.301,-5.37) 4.857,-7.461 6.871,-11.232 ccw(c8.979,-10.133) 10.847,-11.604 15.473,-3.591 ccw(c13.265,-2.71) 13.162,-0.334 8.911,-0.733 ccw(c9.301,-5.37) 5.091,-7.351 6.999,-10.923 ccw(c8.996,-9.883) 10.765,-11.276 15.148,-3.685 ccw(c13.057,-2.85) 12.959,-0.599 8.933,-0.991 ccw(c9.301,-5.37) 5.324,-7.241 7.127,-10.615 ccw(c9.013,-9.632) 10.684,-10.948 14.823,-3.779 ccw(c12.848,-2.99) 12.756,-0.864 8.955,-1.248 ccw(c9.301,-5.37) 5.558,-7.131 7.255,-10.306 ccw(c9.03,-9.381) 10.603,-10.62 14.499,-3.872 ccw(c12.639,-3.13) 12.553,-1.13 8.976,-1.506 ccw(c9.301,-5.37) 5.792,-7.021 7.382,-9.998 ccw(c9.047,-9.13) 10.521,-10.292 14.174,-3.966 ccw(c12.431,-3.27) 12.349,-1.395 8.998,-1.764 ccw(c9.301,-5.37) 6.026,-6.911 7.51,-9.689 ccw(c9.064,-8.88) 10.44,-9.964 13.849,-4.059 ccw(c12.222,-3.41) 12.146,-1.66 9.02,-2.021 ccw(c9.301,-5.37) 6.26,-6.801 7.638,-9.381 ccw(c9.081,-8.629) 10.359,-9.636 13.524,-4.153 ccw(c12.013,-3.55) 11.943,-1.925 9.041,-2.279 ccw(c9.301,-5.37) 6.494,-6.691 7.766,-9.072 ccw(c9.098,-8.378) 10.277,-9.308 13.199,-4.247 ccw(c11.805,-3.69) 11.74,-2.19 9.063,-2.536 ccw(c9.301,-5.37) 6.728,-6.58 7.894,-8.764 ccw(c9.115,-8.128) 10.196,-8.979 12.874,-4.34 ccw(c11.596,-3.83) 11.536,-2.455 9.084,-2.794 ccw(c9.301,-5.37) 6.962,-6.47 8.022,-8.455 ccw(c9.132,-7.877) 10.115,-8.651 12.55,-4.434 ccw(c11.387,-3.97) 11.333,-2.72 9.106,-3.052 ccw(c9.301,-5.37) 7.196,-6.36 8.15,-8.147 ccw(c9.149,-7.626) 10.033,-8.323 12.225,-4.527 ccw(c11.179,-4.11) 11.13,-2.985 9.128,-3.309 ccw(c9.301,-5.37) 7.43,-6.25 8.278,-7.838 ccw(c9.166,-7.376) 9.952,-7.995 11.9,-4.621 ccw(c10.97,-4.25) 10.927,-3.25 9.149,-3.567 ccw(c9.301,-5.37) 7.664,-6.14 8.406,-7.53 ccw(c9.182,-7.125) 9.87,-7.667 11.575,-4.715 ccw(c10.762,-4.39) 10.724,-3.515 9.171,-3.824 ; -11.25,4.808 ccw(c-10.553,4.53) -10.52,3.78 ; -11.25,4.808 ccw(c-10.553,4.53) -10.52,3.78 ; -11.25,4.808 -9.789,7.339 ; -11.25,4.808 -9.789,7.339 ; -10.52,3.78 -9.193,4.082 ; -10.52,3.78 -9.193,4.082 ; -9.789,7.339 cw(c-9.199,6.874) -8.534,7.221 ; -9.789,7.339 cw(c-9.199,6.874) -8.534,7.221 ; -9.171,3.824 ccw(c-9.301,5.37) -7.898,6.03 ; -9.171,3.824 ccw(c-9.301,5.37) -7.898,6.03 ; -8.534,7.221 -7.898,6.03 ; -8.534,7.221 -7.898,6.03 ; 7.898,-6.03 cw(c9.301,-5.37) 9.171,-3.824 ; 7.898,-6.03 cw(c9.301,-5.37) 9.171,-3.824 ; 7.898,-6.03 8.534,-7.221 ; 7.898,-6.03 8.534,-7.221 ; 8.534,-7.221 ccw(c9.199,-6.874) 9.789,-7.339 ; 8.534,-7.221 ccw(c9.199,-6.874) 9.789,-7.339 ; 9.193,-4.082 10.52,-3.78 ; 9.193,-4.082 10.52,-3.78 ; 9.789,-7.339 11.25,-4.808 ; 9.789,-7.339 11.25,-4.808 ; 10.52,-3.78 cw(c10.553,-4.53) 11.25,-4.808 ; 10.52,-3.78 cw(c10.553,-4.53) 11.25,-4.808
Mid-Layer 2:
  lines w0.1: -9.233,6.373 cw(c-8.989,6.231) -8.847,6.476 cw(c-9.329,5.641) -8.398,5.891 -8.365,5.81 cw(c-9.301,5.37) -9.214,4.34 -10.317,4.045 cw(c-10.344,4.67) -10.925,4.902 -9.708,7.011 cw(c-9.216,6.623) -8.661,6.912 -8.131,5.92 cw(c-9.301,5.37) -9.193,4.082 ; -3.651,2.108 -5.047,2.914 ccw(c-9.301,5.37) -4.857,7.461 -6.871,11.232 ccw(c-8.979,10.133) -10.847,11.604 -15.473,3.591 ccw(c-13.265,2.71) -13.162,0.334 -8.911,0.733 ccw(c-9.301,5.37) -5.091,7.351 -6.999,10.923 ccw(c-8.996,9.883) -10.765,11.276 -15.148,3.685 ccw(c-13.057,2.85) -12.959,0.599 -8.933,0.991 ccw(c-9.301,5.37) -5.324,7.241 -7.127,10.615 ccw(c-9.013,9.632) -10.684,10.948 -14.823,3.779 ccw(c-12.848,2.99) -12.756,0.864 -8.955,1.248 ccw(c-9.301,5.37) -5.558,7.131 -7.255,10.306 ccw(c-9.03,9.381) -10.603,10.62 -14.499,3.872 ccw(c-12.639,3.13) -12.553,1.13 -8.976,1.506 ccw(c-9.301,5.37) -5.792,7.021 -7.382,9.998 ccw(c-9.047,9.13) -10.521,10.292 -14.174,3.966 ccw(c-12.431,3.27) -12.349,1.395 -8.998,1.764 ccw(c-9.301,5.37) -6.026,6.911 -7.51,9.689 ccw(c-9.064,8.88) -10.44,9.964 -13.849,4.059 ccw(c-12.222,3.41) -12.146,1.66 -9.02,2.021 ccw(c-9.301,5.37) -6.26,6.801 -7.638,9.381 ccw(c-9.081,8.629) -10.359,9.636 -13.524,4.153 ccw(c-12.013,3.55) -11.943,1.925 -9.041,2.279 ccw(c-9.301,5.37) -6.494,6.691 -7.766,9.072 ccw(c-9.098,8.378) -10.277,9.308 -13.199,4.247 ccw(c-11.805,3.69) -11.74,2.19 -9.063,2.536 ccw(c-9.301,5.37) -6.728,6.58 -7.894,8.764 ccw(c-9.115,8.128) -10.196,8.979 -12.874,4.34 ccw(c-11.596,3.83) -11.536,2.455 -9.084,2.794 ccw(c-9.301,5.37) -6.962,6.47 -8.022,8.455 ccw(c-9.132,7.877) -10.115,8.651 -12.55,4.434 ccw(c-11.387,3.97) -11.333,2.72 -9.106,3.052 ccw(c-9.301,5.37) -7.196,6.36 -8.15,8.147 ccw(c-9.149,7.626) -10.033,8.323 -12.225,4.527 ccw(c-11.179,4.11) -11.13,2.985 -9.128,3.309 ccw(c-9.301,5.37) -7.43,6.25 -8.278,7.838 ccw(c-9.166,7.376) -9.952,7.995 -11.9,4.621 ccw(c-10.97,4.25) -10.927,3.25 -9.149,3.567 ccw(c-9.301,5.37) -7.664,6.14 -8.406,7.53 ccw(c-9.182,7.125) -9.87,7.667 -11.575,4.715 ccw(c-10.762,4.39) -10.724,3.515 -9.171,3.824 ; 3.651,-2.108 5.047,-2.914 cw(c9.301,-5.37) 8.89,-0.475 13.162,-0.334 cw(c13.265,-2.71) 15.473,-3.591 10.847,-11.605 cw(c8.979,-10.133) 6.871,-11.232 5.091,-7.351 cw(c9.301,-5.37) 8.911,-0.733 12.959,-0.599 cw(c13.057,-2.85) 15.148,-3.685 10.765,-11.276 cw(c8.996,-9.883) 6.999,-10.923 5.324,-7.241 cw(c9.301,-5.37) 8.933,-0.991 12.756,-0.864 cw(c12.848,-2.99) 14.823,-3.779 10.684,-10.948 cw(c9.013,-9.632) 7.127,-10.615 5.558,-7.131 cw(c9.301,-5.37) 8.955,-1.248 12.553,-1.13 cw(c12.639,-3.13) 14.499,-3.872 10.603,-10.62 cw(c9.03,-9.381) 7.254,-10.306 5.792,-7.021 cw(c9.301,-5.37) 8.976,-1.506 12.349,-1.395 cw(c12.431,-3.27) 14.174,-3.966 10.521,-10.292 cw(c9.047,-9.13) 7.382,-9.998 6.026,-6.911 cw(c9.301,-5.37) 8.998,-1.764 12.146,-1.66 cw(c12.222,-3.41) 13.849,-4.059 10.44,-9.964 cw(c9.064,-8.88) 7.51,-9.689 6.26,-6.801 cw(c9.301,-5.37) 9.02,-2.021 11.943,-1.925 cw(c12.013,-3.55) 13.524,-4.153 10.359,-9.636 cw(c9.081,-8.629) 7.638,-9.381 6.494,-6.691 cw(c9.301,-5.37) 9.041,-2.279 11.74,-2.19 cw(c11.805,-3.69) 13.199,-4.247 10.277,-9.308 cw(c9.098,-8.378) 7.766,-9.072 6.728,-6.58 cw(c9.301,-5.37) 9.063,-2.536 11.536,-2.455 cw(c11.596,-3.83) 12.874,-4.34 10.196,-8.979 cw(c9.115,-8.128) 7.894,-8.764 6.962,-6.47 cw(c9.301,-5.37) 9.084,-2.794 11.333,-2.72 cw(c11.387,-3.97) 12.55,-4.434 10.115,-8.651 cw(c9.132,-7.877) 8.022,-8.455 7.196,-6.36 cw(c9.301,-5.37) 9.106,-3.052 11.13,-2.985 cw(c11.179,-4.11) 12.225,-4.527 10.033,-8.323 cw(c9.149,-7.626) 8.15,-8.147 7.43,-6.25 cw(c9.301,-5.37) 9.128,-3.309 10.927,-3.25 cw(c10.97,-4.25) 11.9,-4.621 9.952,-7.995 cw(c9.166,-7.376) 8.278,-7.838 7.664,-6.14 cw(c9.301,-5.37) 9.149,-3.567 10.724,-3.515 cw(c10.762,-4.39) 11.575,-4.715 9.87,-7.667 cw(c9.182,-7.125) 8.406,-7.53 7.898,-6.03 ; 9.233,-6.373 9.483,-6.373 ccw(c9.483,-5.783) 9.9,-6.2 10.6,-4.995 ccw(c10.136,-4.81) 10.114,-4.31 9.214,-4.34 ccw(c9.301,-5.37) 8.365,-5.81 8.661,-6.912 ccw(c9.216,-6.623) 9.708,-7.011 10.925,-4.902 ccw(c10.344,-4.67) 10.317,-4.045 9.193,-4.082 ccw(c9.301,-5.37) 8.131,-5.92 ; -11.25,4.808 ccw(c-10.553,4.53) -10.52,3.78 ; -11.25,4.808 ccw(c-10.553,4.53) -10.52,3.78 ; -11.25,4.808 -9.789,7.339 ; -11.25,4.808 -9.789,7.339 ; -10.52,3.78 -9.193,4.082 ; -10.52,3.78 -9.193,4.082 ; -9.789,7.339 cw(c-9.199,6.874) -8.534,7.221 ; -9.789,7.339 cw(c-9.199,6.874) -8.534,7.221 ; -9.171,3.824 ccw(c-9.301,5.37) -7.898,6.03 ; -9.171,3.824 ccw(c-9.301,5.37) -7.898,6.03 ; -8.534,7.221 -7.898,6.03 ; -8.534,7.221 -7.898,6.03 ; 7.898,-6.03 cw(c9.301,-5.37) 9.171,-3.824 ; 7.898,-6.03 cw(c9.301,-5.37) 9.171,-3.824 ; 8.131,-5.92 8.534,-7.221 ; 8.131,-5.92 8.534,-7.221 ; 8.534,-7.221 ccw(c9.199,-6.874) 9.789,-7.339 ; 8.534,-7.221 ccw(c9.199,-6.874) 9.789,-7.339 ; 9.171,-3.824 10.52,-3.78 ; 9.171,-3.824 10.52,-3.78 ; 9.789,-7.339 11.25,-4.808 ; 9.789,-7.339 11.25,-4.808 ; 10.52,-3.78 cw(c10.553,-4.53) 11.25,-4.808 ; 10.52,-3.78 cw(c10.553,-4.53) 11.25,-4.808
  lines w0.4: -3.651,2.108 ccw(c0,0) 3.651,-2.108
Bottom Layer:
  lines w0.1: -13.683,7.9 ccw(c-13.498,8.22) -13.178,8.035 -13.113,8.148 -10.928,11.933 cw(c-8.962,10.384) -6.743,11.54 -4.857,7.461 cw(c-9.301,5.37) -8.89,0.475 -13.162,0.334 cw(c-13.265,2.71) -15.473,3.591 -10.847,11.605 cw(c-8.979,10.133) -6.871,11.232 -5.091,7.351 cw(c-9.301,5.37) -8.911,0.733 -12.959,0.599 cw(c-13.057,2.85) -15.148,3.685 -10.765,11.276 cw(c-8.996,9.883) -6.999,10.923 -5.324,7.241 cw(c-9.301,5.37) -8.933,0.991 -12.756,0.864 cw(c-12.848,2.99) -14.823,3.779 -10.684,10.948 cw(c-9.013,9.632) -7.127,10.615 -5.558,7.131 cw(c-9.301,5.37) -8.955,1.248 -12.553,1.13 cw(c-12.639,3.13) -14.499,3.872 -10.603,10.62 cw(c-9.03,9.381) -7.254,10.306 -5.792,7.021 cw(c-9.301,5.37) -8.976,1.506 -12.349,1.395 cw(c-12.431,3.27) -14.174,3.966 -10.521,10.292 cw(c-9.047,9.13) -7.382,9.998 -6.026,6.911 cw(c-9.301,5.37) -8.998,1.764 -12.146,1.66 cw(c-12.222,3.41) -13.849,4.059 -10.44,9.964 cw(c-9.064,8.88) -7.51,9.689 -6.26,6.801 cw(c-9.301,5.37) -9.02,2.021 -11.943,1.925 cw(c-12.013,3.55) -13.524,4.153 -10.359,9.636 cw(c-9.081,8.629) -7.638,9.381 -6.494,6.691 cw(c-9.301,5.37) -9.041,2.279 -11.74,2.19 cw(c-11.805,3.69) -13.199,4.247 -10.277,9.308 cw(c-9.098,8.378) -7.766,9.072 -6.728,6.58 cw(c-9.301,5.37) -9.063,2.536 -11.536,2.455 cw(c-11.596,3.83) -12.874,4.34 -10.196,8.979 cw(c-9.115,8.128) -7.894,8.764 -6.962,6.47 cw(c-9.301,5.37) -9.084,2.794 -11.333,2.72 cw(c-11.387,3.97) -12.55,4.434 -10.115,8.651 cw(c-9.132,7.877) -8.022,8.455 -7.196,6.36 cw(c-9.301,5.37) -9.106,3.052 -11.13,2.985 cw(c-11.179,4.11) -12.225,4.527 -10.033,8.323 cw(c-9.149,7.626) -8.15,8.147 -7.43,6.25 cw(c-9.301,5.37) -9.128,3.309 -10.927,3.25 cw(c-10.97,4.25) -11.9,4.621 -9.952,7.995 cw(c-9.166,7.376) -8.278,7.838 -7.664,6.14 cw(c-9.301,5.37) -9.149,3.567 -10.724,3.515 cw(c-10.762,4.39) -11.575,4.715 -9.87,7.667 cw(c-9.182,7.125) -8.406,7.53 -7.898,6.03 ; -10.124,5.814 cw(c-9.976,5.814) -10.081,5.919 -9.906,6.094 cw(c-9.233,5.422) -9.233,6.373 ; -10.031,5.957 -10.6,4.995 ccw(c-10.136,4.81) -10.114,4.31 -9.214,4.34 ccw(c-9.301,5.37) -8.365,5.81 -8.661,6.912 ccw(c-9.216,6.623) -9.708,7.011 -10.925,4.902 ccw(c-10.344,4.67) -10.317,4.045 -9.193,4.082 ccw(c-9.301,5.37) -8.131,5.92 ; 9.984,-4.658 ccw(c9.214,-5.428) 9.214,-4.34 ccw(c9.301,-5.37) 8.365,-5.81 8.661,-6.912 ccw(c9.216,-6.623) 9.708,-7.011 10.925,-4.902 ccw(c10.344,-4.67) 10.317,-4.045 9.193,-4.082 ccw(c9.301,-5.37) 8.131,-5.92 ; 13.683,-7.9 ccw(c13.498,-8.22) 13.178,-8.035 13.113,-8.148 10.928,-11.933 cw(c8.962,-10.384) 6.743,-11.54 4.857,-7.461 cw(c9.301,-5.37) 8.89,-0.475 13.162,-0.334 cw(c13.265,-2.71) 15.473,-3.591 10.847,-11.605 cw(c8.979,-10.133) 6.871,-11.232 5.091,-7.351 cw(c9.301,-5.37) 8.911,-0.733 12.959,-0.599 cw(c13.057,-2.85) 15.148,-3.685 10.765,-11.276 cw(c8.996,-9.883) 6.999,-10.923 5.324,-7.241 cw(c9.301,-5.37) 8.933,-0.991 12.756,-0.864 cw(c12.848,-2.99) 14.823,-3.779 10.684,-10.948 cw(c9.013,-9.632) 7.127,-10.615 5.558,-7.131 cw(c9.301,-5.37) 8.955,-1.248 12.553,-1.13 cw(c12.639,-3.13) 14.499,-3.872 10.603,-10.62 cw(c9.03,-9.381) 7.254,-10.306 5.792,-7.021 cw(c9.301,-5.37) 8.976,-1.506 12.349,-1.395 cw(c12.431,-3.27) 14.174,-3.966 10.521,-10.292 cw(c9.047,-9.13) 7.382,-9.998 6.026,-6.911 cw(c9.301,-5.37) 8.998,-1.764 12.146,-1.66 cw(c12.222,-3.41) 13.849,-4.059 10.44,-9.964 cw(c9.064,-8.88) 7.51,-9.689 6.26,-6.801 cw(c9.301,-5.37) 9.02,-2.021 11.943,-1.925 cw(c12.013,-3.55) 13.524,-4.153 10.359,-9.636 cw(c9.081,-8.629) 7.638,-9.381 6.494,-6.691 cw(c9.301,-5.37) 9.041,-2.279 11.74,-2.19 cw(c11.805,-3.69) 13.199,-4.247 10.277,-9.308 cw(c9.098,-8.378) 7.766,-9.072 6.728,-6.58 cw(c9.301,-5.37) 9.063,-2.536 11.536,-2.455 cw(c11.596,-3.83) 12.874,-4.34 10.196,-8.979 cw(c9.115,-8.128) 7.894,-8.764 6.962,-6.47 cw(c9.301,-5.37) 9.084,-2.794 11.333,-2.72 cw(c11.387,-3.97) 12.55,-4.434 10.115,-8.651 cw(c9.132,-7.877) 8.022,-8.455 7.196,-6.36 cw(c9.301,-5.37) 9.106,-3.052 11.13,-2.985 cw(c11.179,-4.11) 12.225,-4.527 10.033,-8.323 cw(c9.149,-7.626) 8.15,-8.147 7.43,-6.25 cw(c9.301,-5.37) 9.128,-3.309 10.927,-3.25 cw(c10.97,-4.25) 11.9,-4.621 9.952,-7.995 cw(c9.166,-7.376) 8.278,-7.838 7.664,-6.14 cw(c9.301,-5.37) 9.149,-3.567 10.724,-3.515 cw(c10.762,-4.39) 11.575,-4.715 9.87,-7.667 cw(c9.182,-7.125) 8.406,-7.53 7.898,-6.03 ; -11.25,4.808 ccw(c-10.553,4.53) -10.52,3.78 ; -11.25,4.808 ccw(c-10.553,4.53) -10.52,3.78 ; -11.25,4.808 -9.789,7.339 ; -11.25,4.808 -9.789,7.339 ; -10.52,3.78 -9.171,3.824 ; -10.52,3.78 -9.171,3.824 ; -9.789,7.339 cw(c-9.199,6.874) -8.534,7.221 ; -9.789,7.339 cw(c-9.199,6.874) -8.534,7.221 ; -9.171,3.824 ccw(c-9.301,5.37) -7.898,6.03 ; -9.171,3.824 ccw(c-9.301,5.37) -7.898,6.03 ; -8.534,7.221 -8.131,5.92 ; -8.534,7.221 -8.131,5.92 ; 7.898,-6.03 cw(c9.301,-5.37) 9.171,-3.824 ; 7.898,-6.03 cw(c9.301,-5.37) 9.171,-3.824 ; 8.131,-5.92 8.534,-7.221 ; 8.131,-5.92 8.534,-7.221 ; 8.534,-7.221 ccw(c9.199,-6.874) 9.789,-7.339 ; 8.534,-7.221 ccw(c9.199,-6.874) 9.789,-7.339 ; 9.171,-3.824 10.52,-3.78 ; 9.171,-3.824 10.52,-3.78 ; 9.789,-7.339 11.25,-4.808 ; 9.789,-7.339 11.25,-4.808 ; 10.52,-3.78 cw(c10.553,-4.53) 11.25,-4.808 ; 10.52,-3.78 cw(c10.553,-4.53) 11.25,-4.808
Mechanical 1:
  circle w0.254: c0,0 r0.3